# Altium footprint library 4.36-VH-3.96mm连接器.PcbLib: 30 footprints (part 2 of 2)
Each footprint in its own frame and in the unit in brackets; x right, y up, seen from the top. Pads: shape width x height; smd on the part's side, far side on the other; paste and mask are expansions set on the pad; w line width, h text height; cw(c..) or ccw(c..) is an arc to the next point about the centre after c.
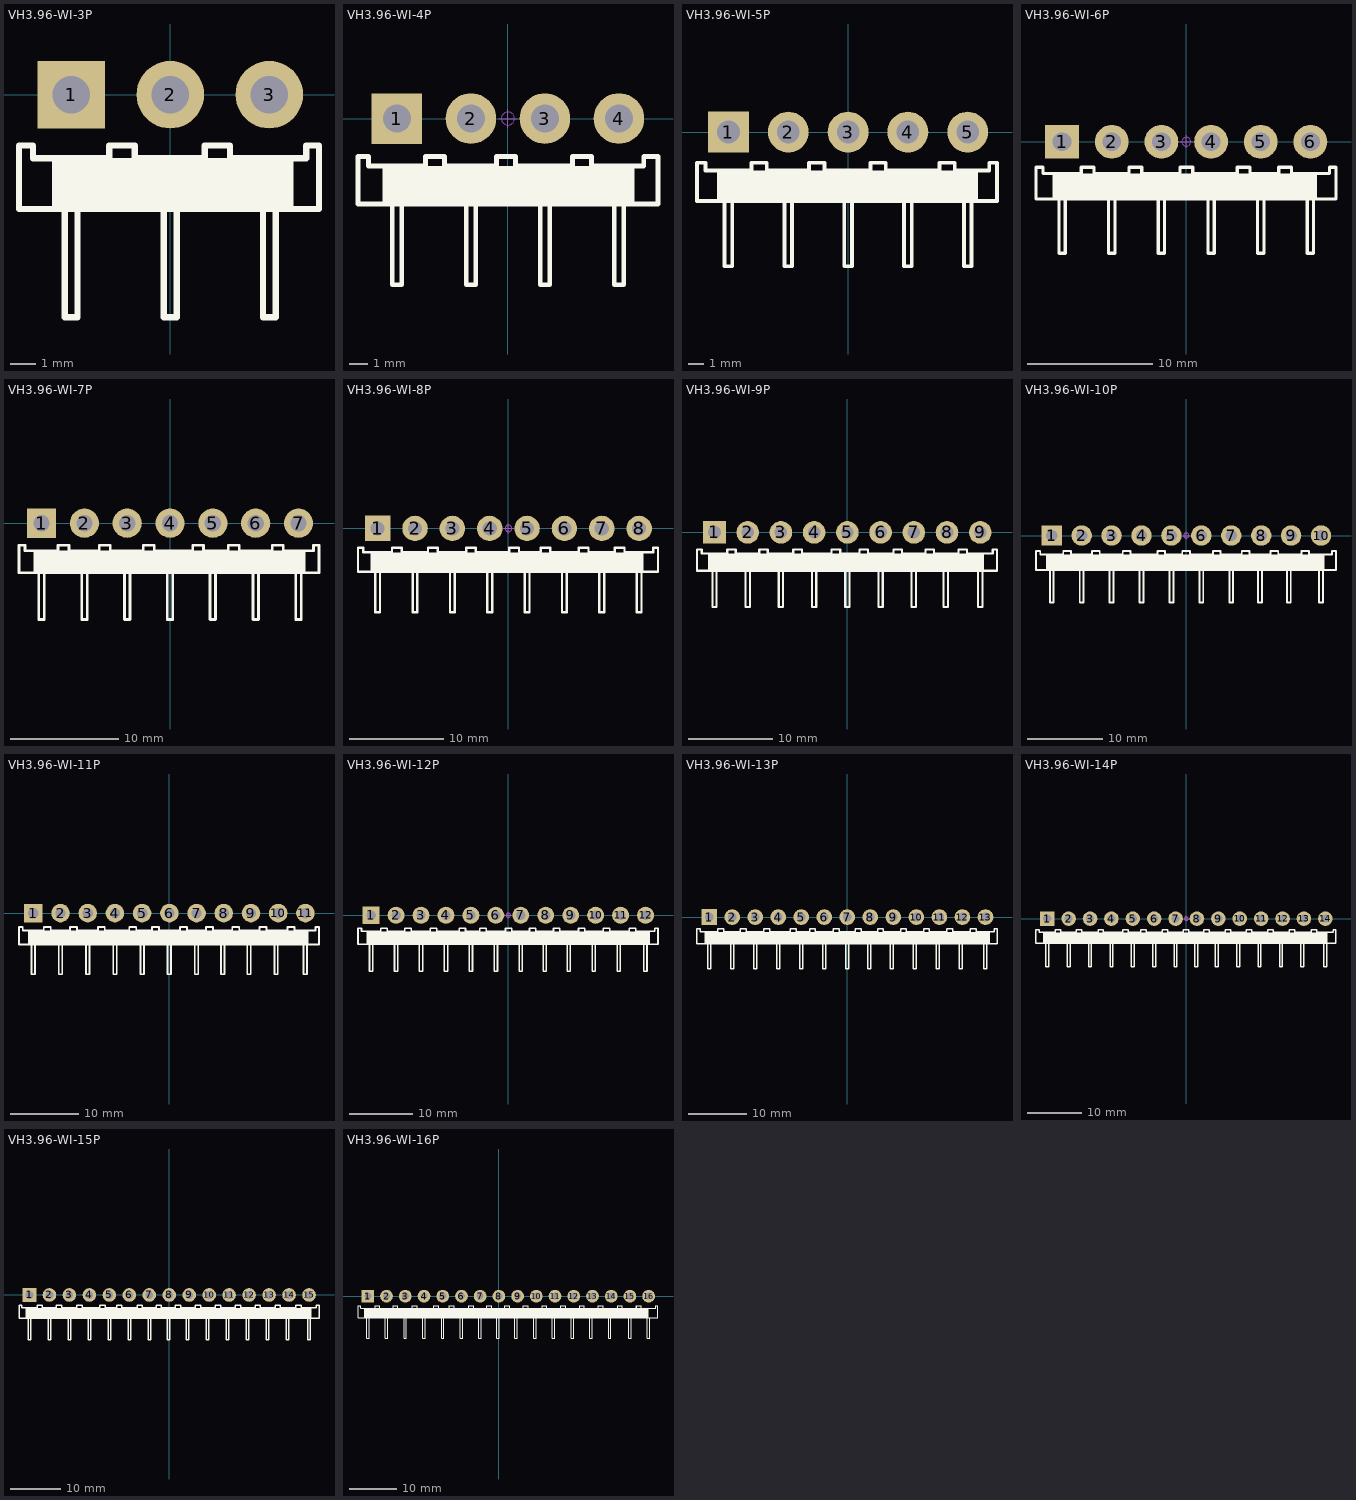
[diagram p1: the footprints below, top view; thin cyan lines are the x and y axes]

## VH3.96-WI-3P [mm] "接插件，25V/5A 淘宝ID:黄晶宝石   店铺网址:https://shop463601444.taobao.com"
pads (3):
  rect 2.7x2.7 hole 1.5: 1(-3.96,0)
  round 2.7 hole 1.5: 2(0.002,0) 3(3.96,0)
Top Overlay:
  rectangle: -4.722,-4.572 4.93,-2.54
  lines w0.254: -0.353,-4.572 0.256,-4.572 0.256,-8.89 0.002,-8.89 -0.252,-8.89 -0.252,-4.572 ; 3.604,-4.572 4.214,-4.572 4.214,-8.89 3.96,-8.89 3.706,-8.89 3.706,-4.572 ; -6.043,-4.572 -4.316,-4.572 -3.706,-4.572 -3.706,-8.89 -3.96,-8.89 -4.214,-8.89 -4.214,-4.572 5.946,-4.572 5.946,-2.032 5.438,-2.032 5.438,-2.54 2.39,-2.54 2.39,-2.032 2.085,-2.032 1.374,-2.032 1.374,-2.54 -1.42,-2.54 -1.42,-2.032 -2.436,-2.032 -2.436,-2.54 -5.484,-2.54 -5.484,-2.032 -6.043,-2.032 -6.043,-4.572
Mechanical 15:
  circle w0.05: c0,0 r0.35
  lines w0.05: -0.5,0 0.5,0 ; 0,-0.5 0,0.5
3D body "VH3.96-中H.STEP": height 8.76, standoff -3.55, extent -2.025,-12 2.025,0.6
3D body "VH3.96-左H.STEP": height 8.76, standoff -3.55, extent 1.935,-12 5.985,0.6
3D body "VH3.96_右H.STEP": height 3.13, standoff -9.18, extent -5.985,-12 -1.935,0.6

## VH3.96-WI-4P [mm] "接插件，25V/5A 淘宝ID:黄晶宝石   店铺网址:https://shop463601444.taobao.com"
pads (4):
  rect 2.7x2.7 hole 1.5: 1(-5.94,0)
  round 2.7 hole 1.5: 2(-1.978,0) 3(1.98,0) 4(5.94,0)
Top Overlay:
  rectangle: -6.702,-4.572 6.76,-2.54
  lines w0.254: -2.333,-4.572 -1.724,-4.572 -1.724,-8.89 -1.978,-8.89 -2.232,-8.89 -2.232,-4.572 ; 1.624,-4.572 2.234,-4.572 2.234,-8.89 1.98,-8.89 1.726,-8.89 1.726,-4.572 ; 5.584,-4.572 6.194,-4.572 6.194,-8.89 5.94,-8.89 5.686,-8.89 5.686,-4.572 ; -8.023,-4.572 -6.296,-4.572 -5.686,-4.572 -5.686,-8.89 -5.94,-8.89 -6.194,-8.89 -6.194,-4.572 8.03,-4.572 8.03,-2.54 8.03,-2.032 7.268,-2.032 7.268,-2.54 4.474,-2.54 4.474,-2.032 3.966,-2.032 3.458,-2.032 3.458,-2.54 0.41,-2.54 0.41,-2.032 0.105,-2.032 -0.606,-2.032 -0.606,-2.54 -3.4,-2.54 -3.4,-2.032 -4.416,-2.032 -4.416,-2.54 -7.464,-2.54 -7.464,-2.032 -8.023,-2.032 -8.023,-4.572
Mechanical 15:
  circle w0.05: c0,0 r0.35
  lines w0.05: -0.5,0 0.5,0 ; 0,-0.5 0,0.5
3D body "VH3.96-中H.STEP": height 8.76, standoff -3.55, extent -4.005,-12 0.045,0.6
3D body "VH3.96-左H.STEP": height 8.76, standoff -3.55, extent 3.915,-12 7.965,0.6
3D body "VH3.96-中H.STEP": height 8.76, standoff -3.55, extent -0.045,-12 4.005,0.6
3D body "VH3.96_右H.STEP": height 3.13, standoff -9.18, extent -7.965,-12 -3.915,0.6

## VH3.96-WI-5P [mm] "接插件，25V/5A 淘宝ID:黄晶宝石   店铺网址:https://shop463601444.taobao.com"
pads (5):
  rect 2.7x2.7 hole 1.5: 1(-7.92,0)
  round 2.7 hole 1.5: 2(-3.958,0) 3(0,0) 4(3.96,0) 5(7.92,0)
Top Overlay:
  rectangle: -8.682,-4.572 8.59,-2.54
  lines w0.254: -4.313,-4.572 -3.704,-4.572 -3.704,-8.89 -3.958,-8.89 -4.212,-8.89 -4.212,-4.572 ; -0.356,-4.572 0.254,-4.572 0.254,-8.89 0,-8.89 -0.254,-8.89 -0.254,-4.572 ; 3.604,-4.572 4.214,-4.572 4.214,-8.89 3.96,-8.89 3.706,-8.89 3.706,-4.572 ; 7.564,-4.572 8.174,-4.572 8.174,-8.89 7.92,-8.89 7.666,-8.89 7.666,-4.572 ; -10.003,-4.572 -10.003,-2.032 -9.444,-2.032 -9.444,-2.54 -6.396,-2.54 -6.396,-2.032 -5.38,-2.032 -5.38,-2.54 -2.586,-2.54 -2.586,-2.032 -1.875,-2.032 -1.57,-2.032 -1.57,-2.54 1.478,-2.54 1.478,-2.032 1.986,-2.032 2.494,-2.032 2.494,-2.54 6.05,-2.54 6.05,-2.032 7.066,-2.032 7.066,-2.54 9.352,-2.54 9.352,-2.032 9.86,-2.032 9.86,-4.572 6.05,-4.572 -8.174,-4.572 -8.174,-8.89 -7.92,-8.89 -7.666,-8.89 -7.666,-4.572 -8.276,-4.572 -10.003,-4.572
Mechanical 15:
  circle w0.05: c0,0 r0.35
  lines w0.05: -0.5,0 0.5,0 ; 0,-0.5 0,0.5
3D body "VH3.96_右H.STEP": height 3.13, standoff -9.18, extent -9.945,-12 -5.895,0.6
3D body "VH3.96-中H.STEP": height 8.76, standoff -3.55, extent -2.025,-12 2.025,0.6
3D body "VH3.96-左H.STEP": height 8.76, standoff -3.55, extent 5.895,-12 9.945,0.6
3D body "VH3.96-中H.STEP": height 8.76, standoff -3.55, extent -5.985,-12 -1.935,0.6
3D body "VH3.96-中H.STEP": height 8.76, standoff -3.55, extent 1.935,-12 5.985,0.6

## VH3.96-WI-6P [mm] "接插件，25V/5A"
pads (6):
  rect 2.7x2.7 hole 1.5: 1(-9.9,0)
  round 2.7 hole 1.5: 2(-5.938,0) 3(-1.98,0) 4(1.98,0) 5(5.94,0) 6(9.9,0)
Top Overlay:
  rectangle: -10.662,-4.572 10.42,-2.54
  lines w0.254: -6.293,-4.572 -5.684,-4.572 -5.684,-8.89 -5.938,-8.89 -6.192,-8.89 -6.192,-4.572 ; -2.336,-4.572 -1.726,-4.572 -1.726,-8.89 -1.98,-8.89 -2.234,-8.89 -2.234,-4.572 ; 1.624,-4.572 2.234,-4.572 2.234,-8.89 1.98,-8.89 1.726,-8.89 1.726,-4.572 ; 5.584,-4.572 6.194,-4.572 6.194,-8.89 5.94,-8.89 5.686,-8.89 5.686,-4.572 ; 9.544,-4.572 10.154,-4.572 10.154,-8.89 9.9,-8.89 9.646,-8.89 9.646,-4.572 ; -11.983,-4.572 -10.256,-4.572 -9.646,-4.572 -9.646,-8.89 -9.9,-8.89 -10.154,-8.89 -10.154,-4.572 4.07,-4.572 7.88,-4.572 11.944,-4.572 11.944,-2.032 11.436,-2.032 11.436,-2.54 8.388,-2.54 8.388,-2.032 7.88,-2.032 7.372,-2.032 7.372,-2.54 5.086,-2.54 5.086,-2.032 4.07,-2.032 4.07,-2.54 0.514,-2.54 0.514,-2.032 0.006,-2.032 -0.502,-2.032 -0.502,-2.54 -3.55,-2.54 -3.55,-2.032 -3.855,-2.032 -4.566,-2.032 -4.566,-2.54 -7.36,-2.54 -7.36,-2.032 -8.376,-2.032 -8.376,-2.54 -11.424,-2.54 -11.424,-2.032 -11.983,-2.032 -11.983,-4.572
Mechanical 15:
  circle w0.05: c0,0 r0.35
  lines w0.05: -0.5,0 0.5,0 ; 0,-0.5 0,0.5
3D body "VH3.96-中H.STEP": height 8.76, standoff -3.55, extent -0.045,-12 4.005,0.6
3D body "VH3.96-中H.STEP": height 8.76, standoff -3.55, extent -7.965,-12 -3.915,0.6
3D body "VH3.96-左H.STEP": height 8.76, standoff -3.55, extent 7.875,-12 11.925,0.6
3D body "VH3.96-中H.STEP": height 8.76, standoff -3.55, extent -4.005,-12 0.045,0.6
3D body "VH3.96-中H.STEP": height 8.76, standoff -3.55, extent 3.915,-12 7.965,0.6
3D body "VH3.96_右H.STEP": height 3.13, standoff -9.18, extent -11.925,-12 -7.875,0.6

## VH3.96-WI-7P [mm] "接插件，25V/5A"
pads (7):
  rect 2.7x2.7 hole 1.5: 1(-11.88,0)
  round 2.7 hole 1.5: 2(-7.918,0) 3(-3.96,0) 4(0,0) 5(3.96,0) 6(7.92,0) 7(11.88,0)
Top Overlay:
  rectangle: -12.642,-4.572 12.504,-2.54
  lines w0.254: -8.273,-4.572 -7.664,-4.572 -7.664,-8.89 -7.918,-8.89 -8.172,-8.89 -8.172,-4.572 ; -4.316,-4.572 -3.706,-4.572 -3.706,-8.89 -3.96,-8.89 -4.214,-8.89 -4.214,-4.572 ; -0.356,-4.572 0.254,-4.572 0.254,-8.89 0,-8.89 -0.254,-8.89 -0.254,-4.572 ; 3.604,-4.572 4.214,-4.572 4.214,-8.89 3.96,-8.89 3.706,-8.89 3.706,-4.572 ; 7.564,-4.572 8.174,-4.572 8.174,-8.89 7.92,-8.89 7.666,-8.89 7.666,-4.572 ; 11.524,-4.572 12.134,-4.572 12.134,-8.89 11.88,-8.89 11.626,-8.89 11.626,-4.572 ; -13.963,-4.572 -12.236,-4.572 -11.626,-4.572 -11.626,-8.89 -11.88,-8.89 -12.134,-8.89 -12.134,-4.572 2.09,-4.572 5.9,-4.572 9.964,-4.572 13.774,-4.572 13.774,-2.032 13.266,-2.032 13.266,-2.54 10.472,-2.54 10.472,-2.032 9.964,-2.032 9.456,-2.032 9.456,-2.54 6.408,-2.54 6.408,-2.032 5.9,-2.032 5.392,-2.032 5.392,-2.54 3.106,-2.54 3.106,-2.032 2.09,-2.032 2.09,-2.54 -1.466,-2.54 -1.466,-2.032 -1.974,-2.032 -2.482,-2.032 -2.482,-2.54 -5.53,-2.54 -5.53,-2.032 -5.835,-2.032 -6.546,-2.032 -6.546,-2.54 -9.34,-2.54 -9.34,-2.032 -10.356,-2.032 -10.356,-2.54 -13.404,-2.54 -13.404,-2.032 -13.963,-2.032 -13.963,-4.572
Mechanical 15:
  circle w0.05: c0,0 r0.35
  lines w0.05: -0.5,0 0.5,0 ; 0,-0.5 0,0.5
3D body "VH3.96-中H.STEP": height 8.76, standoff -3.55, extent 5.895,-12 9.945,0.6
3D body "VH3.96-中H.STEP": height 8.76, standoff -3.55, extent -2.025,-12 2.025,0.6
3D body "VH3.96-中H.STEP": height 8.76, standoff -3.55, extent -9.945,-12 -5.895,0.6
3D body "VH3.96-左H.STEP": height 8.76, standoff -3.55, extent 9.855,-12 13.905,0.6
3D body "VH3.96-中H.STEP": height 8.76, standoff -3.55, extent -5.985,-12 -1.935,0.6
3D body "VH3.96-中H.STEP": height 8.76, standoff -3.55, extent 1.935,-12 5.985,0.6
3D body "VH3.96_右H.STEP": height 3.13, standoff -9.18, extent -13.905,-12 -9.855,0.6

## VH3.96-WI-8P [mm] "接插件，25V/5A"
pads (8):
  rect 2.7x2.7 hole 1.5: 1(-13.86,0)
  round 2.7 hole 1.5: 2(-9.898,0) 3(-5.94,0) 4(-1.98,0) 5(1.98,0) 6(5.94,0) 7(9.9,0) 8(13.86,0)
Top Overlay:
  rectangle: -14.622,-4.572 14.334,-2.54
  lines w0.254: -10.253,-4.572 -9.644,-4.572 -9.644,-8.89 -9.898,-8.89 -10.152,-8.89 -10.152,-4.572 ; -6.296,-4.572 -5.686,-4.572 -5.686,-8.89 -5.94,-8.89 -6.194,-8.89 -6.194,-4.572 ; -2.336,-4.572 -1.726,-4.572 -1.726,-8.89 -1.98,-8.89 -2.234,-8.89 -2.234,-4.572 ; 1.624,-4.572 2.234,-4.572 2.234,-8.89 1.98,-8.89 1.726,-8.89 1.726,-4.572 ; 5.584,-4.572 6.194,-4.572 6.194,-8.89 5.94,-8.89 5.686,-8.89 5.686,-4.572 ; 9.544,-4.572 10.154,-4.572 10.154,-8.89 9.9,-8.89 9.646,-8.89 9.646,-4.572 ; 13.504,-4.572 14.114,-4.572 14.114,-8.89 13.86,-8.89 13.606,-8.89 13.606,-4.572 ; -15.943,-4.572 -15.943,-2.032 -15.384,-2.032 -15.384,-2.54 -12.336,-2.54 -12.336,-2.032 -11.32,-2.032 -11.32,-2.54 -8.526,-2.54 -8.526,-2.032 -7.815,-2.032 -7.51,-2.032 -7.51,-2.54 -4.462,-2.54 -4.462,-2.032 -3.954,-2.032 -3.446,-2.032 -3.446,-2.54 0.11,-2.54 0.11,-2.032 1.126,-2.032 1.126,-2.54 3.412,-2.54 3.412,-2.032 3.92,-2.032 4.428,-2.032 4.428,-2.54 7.476,-2.54 7.476,-2.032 7.984,-2.032 8.492,-2.032 8.492,-2.54 11.286,-2.54 11.286,-2.032 11.794,-2.032 12.302,-2.032 12.302,-2.54 15.35,-2.54 15.35,-2.032 15.858,-2.032 15.858,-4.572 11.794,-4.572 7.984,-4.572 3.92,-4.572 0.11,-4.572 -14.114,-4.572 -14.114,-8.89 -13.86,-8.89 -13.606,-8.89 -13.606,-4.572 -14.216,-4.572 -15.943,-4.572
Mechanical 15:
  circle w0.05: c0,0 r0.35
  lines w0.05: -0.5,0 0.5,0 ; 0,-0.5 0,0.5
3D body "VH3.96_右H.STEP": height 3.13, standoff -9.18, extent -15.885,-12 -11.835,0.6
3D body "VH3.96-中H.STEP": height 8.76, standoff -3.55, extent -0.045,-12 4.005,0.6
3D body "VH3.96-中H.STEP": height 8.76, standoff -3.55, extent -7.965,-12 -3.915,0.6
3D body "VH3.96-左H.STEP": height 8.76, standoff -3.55, extent 11.835,-12 15.885,0.6
3D body "VH3.96-中H.STEP": height 8.76, standoff -3.55, extent -11.925,-12 -7.875,0.6
3D body "VH3.96-中H.STEP": height 8.76, standoff -3.55, extent -4.005,-12 0.045,0.6
3D body "VH3.96-中H.STEP": height 8.76, standoff -3.55, extent 3.915,-12 7.965,0.6
3D body "VH3.96-中H.STEP": height 8.76, standoff -3.55, extent 7.875,-12 11.925,0.6

## VH3.96-WI-9P [mm] "接插件，25V/5A"
pads (9):
  rect 2.7x2.7 hole 1.5: 1(-15.84,0)
  round 2.7 hole 1.5: 2(-11.878,0) 3(-7.92,0) 4(-3.96,0) 5(0,0) 6(3.96,0) 7(7.92,0) 8(11.88,0) 9(15.84,0)
Top Overlay:
  rectangle: -16.602,-4.572 16.314,-2.54
  lines w0.254: -12.233,-4.572 -11.624,-4.572 -11.624,-8.89 -11.878,-8.89 -12.132,-8.89 -12.132,-4.572 ; -8.276,-4.572 -7.666,-4.572 -7.666,-8.89 -7.92,-8.89 -8.174,-8.89 -8.174,-4.572 ; -4.316,-4.572 -3.706,-4.572 -3.706,-8.89 -3.96,-8.89 -4.214,-8.89 -4.214,-4.572 ; -0.356,-4.572 0.254,-4.572 0.254,-8.89 0,-8.89 -0.254,-8.89 -0.254,-4.572 ; 3.604,-4.572 4.214,-4.572 4.214,-8.89 3.96,-8.89 3.706,-8.89 3.706,-4.572 ; 7.564,-4.572 8.174,-4.572 8.174,-8.89 7.92,-8.89 7.666,-8.89 7.666,-4.572 ; 11.374,-4.572 11.984,-4.572 11.984,-8.89 11.73,-8.89 11.476,-8.89 11.476,-4.572 ; 13.116,-2.54 10.322,-2.54 10.322,-2.032 9.814,-2.032 9.306,-2.032 9.306,-2.54 6.512,-2.54 6.512,-2.032 6.004,-2.032 5.496,-2.032 5.496,-2.54 2.448,-2.54 2.448,-2.032 1.94,-2.032 1.432,-2.032 1.432,-2.54 -0.854,-2.54 -0.854,-2.032 -1.87,-2.032 -1.87,-2.54 -5.426,-2.54 -5.426,-2.032 -5.934,-2.032 -6.442,-2.032 -6.442,-2.54 -9.49,-2.54 -9.49,-2.032 -9.795,-2.032 -10.506,-2.032 -10.506,-2.54 -13.3,-2.54 -13.3,-2.032 -14.316,-2.032 -14.316,-2.54 -17.364,-2.54 -17.364,-2.032 -17.923,-2.032 -17.923,-4.572 -16.196,-4.572 -15.586,-4.572 -15.586,-8.89 -15.84,-8.89 -16.094,-8.89 -16.094,-4.572 -1.87,-4.572 1.94,-4.572 6.004,-4.572 9.814,-4.572 13.624,-4.572 17.838,-4.572 17.838,-2.032 17.33,-2.032 17.33,-2.54 14.282,-2.54 14.282,-2.032 13.774,-2.032 13.266,-2.032 13.266,-2.54 ; 15.484,-4.572 16.094,-4.572 16.094,-8.89 15.84,-8.89 15.586,-8.89 15.586,-4.572
Mechanical 15:
  circle w0.05: c0,0 r0.35
  lines w0.05: -0.5,0 0.5,0 ; 0,-0.5 0,0.5
3D body "VH3.96-中H.STEP": height 8.76, standoff -3.55, extent 5.895,-12 9.945,0.6
3D body "VH3.96-中H.STEP": height 8.76, standoff -3.55, extent 1.935,-12 5.985,0.6
3D body "VH3.96-中H.STEP": height 8.76, standoff -3.55, extent -5.985,-12 -1.935,0.6
3D body "VH3.96-中H.STEP": height 8.76, standoff -3.55, extent -13.905,-12 -9.855,0.6
3D body "VH3.96-左H.STEP": height 8.76, standoff -3.55, extent 13.815,-12 17.865,0.6
3D body "VH3.96-中H.STEP": height 8.76, standoff -3.55, extent -9.945,-12 -5.895,0.6
3D body "VH3.96-中H.STEP": height 8.76, standoff -3.55, extent -2.025,-12 2.025,0.6
3D body "VH3.96-中H.STEP": height 8.76, standoff -3.55, extent 9.855,-12 13.905,0.6
3D body "VH3.96_右H.STEP": height 3.13, standoff -9.18, extent -17.865,-12 -13.815,0.6

## VH3.96-WI-10P [mm] "接插件，25V/5A  淘宝ID:黄晶宝石   店铺网址:https://shop463601444.taobao.com"
pads (10):
  rect 2.7x2.7 hole 1.5: 1(-17.82,0)
  round 2.7 hole 1.5: 2(-13.858,0) 3(-9.9,0) 4(-5.94,0) 5(-1.98,0) 6(1.98,0) 7(5.94,0) 8(9.9,0) 9(13.86,0) 10(17.82,0)
Top Overlay:
  rectangle: -18.582,-4.572 18.294,-2.54
  lines w0.254: -14.213,-4.572 -13.604,-4.572 -13.604,-8.89 -13.858,-8.89 -14.112,-8.89 -14.112,-4.572 ; -10.256,-4.572 -9.646,-4.572 -9.646,-8.89 -9.9,-8.89 -10.154,-8.89 -10.154,-4.572 ; -6.296,-4.572 -5.686,-4.572 -5.686,-8.89 -5.94,-8.89 -6.194,-8.89 -6.194,-4.572 ; -2.336,-4.572 -1.726,-4.572 -1.726,-8.89 -1.98,-8.89 -2.234,-8.89 -2.234,-4.572 ; 1.624,-4.572 2.234,-4.572 2.234,-8.89 1.98,-8.89 1.726,-8.89 1.726,-4.572 ; 5.584,-4.572 6.194,-4.572 6.194,-8.89 5.94,-8.89 5.686,-8.89 5.686,-4.572 ; 9.394,-4.572 10.004,-4.572 10.004,-8.89 9.75,-8.89 9.496,-8.89 9.496,-4.572 ; 13.204,-4.572 13.814,-4.572 13.814,-8.89 13.56,-8.89 13.306,-8.89 13.306,-4.572 ; 15.454,-4.572 11.644,-4.572 7.834,-4.572 4.024,-4.572 -0.04,-4.572 -3.85,-4.572 -18.074,-4.572 -18.074,-8.89 -17.82,-8.89 -17.566,-8.89 -17.566,-4.572 -18.176,-4.572 -19.903,-4.572 -19.903,-2.032 -19.344,-2.032 -19.344,-2.54 -16.296,-2.54 -16.296,-2.032 -15.28,-2.032 -15.28,-2.54 -12.486,-2.54 -12.486,-2.032 -11.775,-2.032 -11.47,-2.032 -11.47,-2.54 -8.422,-2.54 -8.422,-2.032 -7.914,-2.032 -7.406,-2.032 -7.406,-2.54 -3.85,-2.54 -3.85,-2.032 -2.834,-2.032 -2.834,-2.54 -0.548,-2.54 -0.548,-2.032 -0.04,-2.032 0.468,-2.032 0.468,-2.54 3.516,-2.54 3.516,-2.032 4.024,-2.032 4.532,-2.032 4.532,-2.54 7.326,-2.54 7.326,-2.032 7.834,-2.032 8.342,-2.032 8.342,-2.54 11.136,-2.54 11.136,-2.032 11.644,-2.032 12.152,-2.032 12.152,-2.54 15.228,-2.54 15.228,-2.032 15.736,-2.032 16.244,-2.032 16.244,-2.54 19.292,-2.54 19.292,-2.032 19.8,-2.032 19.8,-4.572 15.586,-4.572 ; 17.446,-4.572 18.056,-4.572 18.056,-8.89 17.802,-8.89 17.548,-8.89 17.548,-4.572
Mechanical 15:
  circle w0.05: c0,0 r0.35
  lines w0.05: -0.5,0 0.5,0 ; 0,-0.5 0,0.5
3D body "VH3.96-中H.STEP": height 8.76, standoff -3.55, extent 11.835,-12 15.885,0.6
3D body "VH3.96-中H.STEP": height 8.76, standoff -3.55, extent 3.915,-12 7.965,0.6
3D body "VH3.96-中H.STEP": height 8.76, standoff -3.55, extent -0.045,-12 4.005,0.6
3D body "VH3.96-中H.STEP": height 8.76, standoff -3.55, extent -7.965,-12 -3.915,0.6
3D body "VH3.96-中H.STEP": height 8.76, standoff -3.55, extent -15.885,-12 -11.835,0.6
3D body "VH3.96-左H.STEP": height 8.76, standoff -3.55, extent 15.795,-12 19.845,0.6
3D body "VH3.96-中H.STEP": height 8.76, standoff -3.55, extent -11.925,-12 -7.875,0.6
3D body "VH3.96-中H.STEP": height 8.76, standoff -3.55, extent -4.005,-12 0.045,0.6
3D body "VH3.96-中H.STEP": height 8.76, standoff -3.55, extent 7.875,-12 11.925,0.6
3D body "VH3.96_右H.STEP": height 3.13, standoff -9.18, extent -19.845,-12 -15.795,0.6

## VH3.96-WI-11P [mm] "接插件，25V/5A"
pads (11):
  rect 2.7x2.7 hole 1.5: 1(-19.8,0)
  round 2.7 hole 1.5: 2(-15.838,0) 3(-11.88,0) 4(-7.92,0) 5(-3.96,0) 6(0,0) 7(3.96,0) 8(7.92,0) 9(11.88,0) 10(15.84,0) 11(19.8,0)
Top Overlay:
  rectangle: -20.562,-4.572 20.245,-2.54
  lines w0.254: -16.193,-4.572 -15.584,-4.572 -15.584,-8.89 -15.838,-8.89 -16.092,-8.89 -16.092,-4.572 ; -12.236,-4.572 -11.626,-4.572 -11.626,-8.89 -11.88,-8.89 -12.134,-8.89 -12.134,-4.572 ; -8.276,-4.572 -7.666,-4.572 -7.666,-8.89 -7.92,-8.89 -8.174,-8.89 -8.174,-4.572 ; -4.316,-4.572 -3.706,-4.572 -3.706,-8.89 -3.96,-8.89 -4.214,-8.89 -4.214,-4.572 ; -0.356,-4.572 0.254,-4.572 0.254,-8.89 0,-8.89 -0.254,-8.89 -0.254,-4.572 ; 3.604,-4.572 4.214,-4.572 4.214,-8.89 3.96,-8.89 3.706,-8.89 3.706,-4.572 ; 7.414,-4.572 8.024,-4.572 8.024,-8.89 7.77,-8.89 7.516,-8.89 7.516,-4.572 ; 11.224,-4.572 11.834,-4.572 11.834,-8.89 11.58,-8.89 11.326,-8.89 11.326,-4.572 ; 13.26,-4.572 18.34,-4.572 ; 13.474,-4.572 9.664,-4.572 5.854,-4.572 2.044,-4.572 -2.02,-4.572 -5.83,-4.572 -20.054,-4.572 -20.054,-8.89 -19.8,-8.89 -19.546,-8.89 -19.546,-4.572 -20.156,-4.572 -21.883,-4.572 -21.883,-2.032 -21.324,-2.032 -21.324,-2.54 -18.276,-2.54 -18.276,-2.032 -17.26,-2.032 -17.26,-2.54 -14.466,-2.54 -14.466,-2.032 -13.755,-2.032 -13.45,-2.032 -13.45,-2.54 -10.402,-2.54 -10.402,-2.032 -9.894,-2.032 -9.386,-2.032 -9.386,-2.54 -5.83,-2.54 -5.83,-2.032 -4.814,-2.032 -4.814,-2.54 -2.528,-2.54 -2.528,-2.032 -2.02,-2.032 -1.512,-2.032 -1.512,-2.54 1.536,-2.54 1.536,-2.032 2.044,-2.032 2.552,-2.032 2.552,-2.54 5.346,-2.54 5.346,-2.032 5.854,-2.032 6.362,-2.032 6.362,-2.54 9.156,-2.54 9.156,-2.032 9.664,-2.032 10.172,-2.032 10.172,-2.54 13.116,-2.54 13.116,-2.032 13.624,-2.032 14.132,-2.032 14.132,-2.54 17.208,-2.54 17.208,-2.032 17.716,-2.032 18.224,-2.032 18.224,-2.54 21.272,-2.54 21.272,-2.032 21.78,-2.032 21.78,-4.572 17.566,-4.572 ; 15.184,-4.572 15.794,-4.572 15.794,-8.89 15.54,-8.89 15.286,-8.89 15.286,-4.572 ; 19.426,-4.572 20.036,-4.572 20.036,-8.89 19.782,-8.89 19.528,-8.89 19.528,-4.572
Mechanical 15:
  circle w0.05: c0,0 r0.35
  lines w0.05: -0.5,0 0.5,0 ; 0,-0.5 0,0.5
3D body "VH3.96-中H.STEP": height 8.76, standoff -3.55, extent 13.815,-12 17.865,0.6
3D body "VH3.96-中H.STEP": height 8.76, standoff -3.55, extent 9.855,-12 13.905,0.6
3D body "VH3.96-中H.STEP": height 8.76, standoff -3.55, extent 1.935,-12 5.985,0.6
3D body "VH3.96-中H.STEP": height 8.76, standoff -3.55, extent -2.025,-12 2.025,0.6
3D body "VH3.96-中H.STEP": height 8.76, standoff -3.55, extent -9.945,-12 -5.895,0.6
3D body "VH3.96-中H.STEP": height 8.76, standoff -3.55, extent -17.865,-12 -13.815,0.6
3D body "VH3.96-左H.STEP": height 8.76, standoff -3.55, extent 17.775,-12 21.825,0.6
3D body "VH3.96-中H.STEP": height 8.76, standoff -3.55, extent -13.905,-12 -9.855,0.6
3D body "VH3.96-中H.STEP": height 8.76, standoff -3.55, extent -5.985,-12 -1.935,0.6
3D body "VH3.96-中H.STEP": height 8.76, standoff -3.55, extent 5.895,-12 9.945,0.6
3D body "VH3.96_右H.STEP": height 3.13, standoff -9.18, extent -21.825,-12 -17.775,0.6

## VH3.96-WI-12P [mm] "接插件，25V/5A"
pads (12):
  rect 2.7x2.7 hole 1.5: 1(-21.78,0)
  round 2.7 hole 1.5: 2(-17.818,0) 3(-13.86,0) 4(-9.9,0) 5(-5.94,0) 6(-1.98,0) 7(1.98,0) 8(5.94,0) 9(9.9,0) 10(13.86,0) 11(17.82,0) 12(21.78,0)
Top Overlay:
  rectangle: -22.542,-4.572 22.456,-2.54
  lines w0.254: -18.173,-4.572 -17.564,-4.572 -17.564,-8.89 -17.818,-8.89 -18.072,-8.89 -18.072,-4.572 ; -14.216,-4.572 -13.606,-4.572 -13.606,-8.89 -13.86,-8.89 -14.114,-8.89 -14.114,-4.572 ; -10.256,-4.572 -9.646,-4.572 -9.646,-8.89 -9.9,-8.89 -10.154,-8.89 -10.154,-4.572 ; -6.296,-4.572 -5.686,-4.572 -5.686,-8.89 -5.94,-8.89 -6.194,-8.89 -6.194,-4.572 ; -2.336,-4.572 -1.726,-4.572 -1.726,-8.89 -1.98,-8.89 -2.234,-8.89 -2.234,-4.572 ; 1.624,-4.572 2.234,-4.572 2.234,-8.89 1.98,-8.89 1.726,-8.89 1.726,-4.572 ; 5.434,-4.572 6.044,-4.572 6.044,-8.89 5.79,-8.89 5.536,-8.89 5.536,-4.572 ; 9.244,-4.572 9.854,-4.572 9.854,-8.89 9.6,-8.89 9.346,-8.89 9.346,-4.572 ; 11.28,-4.572 16.36,-4.572 ; 11.494,-4.572 7.684,-4.572 3.874,-4.572 0.064,-4.572 -4,-4.572 -7.81,-4.572 -22.034,-4.572 -22.034,-8.89 -21.78,-8.89 -21.526,-8.89 -21.526,-4.572 -22.136,-4.572 -23.863,-4.572 -23.863,-2.032 -23.304,-2.032 -23.304,-2.54 -20.256,-2.54 -20.256,-2.032 -19.24,-2.032 -19.24,-2.54 -16.446,-2.54 -16.446,-2.032 -15.735,-2.032 -15.43,-2.032 -15.43,-2.54 -12.382,-2.54 -12.382,-2.032 -11.874,-2.032 -11.366,-2.032 -11.366,-2.54 -7.81,-2.54 -7.81,-2.032 -6.794,-2.032 -6.794,-2.54 -4.508,-2.54 -4.508,-2.032 -4,-2.032 -3.492,-2.032 -3.492,-2.54 -0.444,-2.54 -0.444,-2.032 0.064,-2.032 0.572,-2.032 0.572,-2.54 3.366,-2.54 3.366,-2.032 3.874,-2.032 4.382,-2.032 4.382,-2.54 7.176,-2.54 7.176,-2.032 7.684,-2.032 8.192,-2.032 8.192,-2.54 11.136,-2.54 11.136,-2.032 11.644,-2.032 12.152,-2.032 12.152,-2.54 15.096,-2.54 15.096,-2.032 15.604,-2.032 16.112,-2.032 16.112,-2.54 19.188,-2.54 19.188,-2.032 19.696,-2.032 20.204,-2.032 20.204,-2.54 23.252,-2.54 23.252,-2.032 23.76,-2.032 23.76,-4.572 19.546,-4.572 ; 13.204,-4.572 13.814,-4.572 13.814,-8.89 13.56,-8.89 13.306,-8.89 13.306,-4.572 ; 15.24,-4.572 20.32,-4.572 ; 17.164,-4.572 17.774,-4.572 17.774,-8.89 17.52,-8.89 17.266,-8.89 17.266,-4.572 ; 21.406,-4.572 22.016,-4.572 22.016,-8.89 21.762,-8.89 21.508,-8.89 21.508,-4.572
Mechanical 15:
  circle w0.05: c0,0 r0.35
  lines w0.05: -0.5,0 0.5,0 ; 0,-0.5 0,0.5
3D body "VH3.96_右H.STEP": height 3.13, standoff -9.18, extent -23.805,-12 -19.755,0.6
3D body "VH3.96-中H.STEP": height 8.76, standoff -3.55, extent 15.795,-12 19.845,0.6
3D body "VH3.96-中H.STEP": height 8.76, standoff -3.55, extent 3.915,-12 7.965,0.6
3D body "VH3.96-中H.STEP": height 8.76, standoff -3.55, extent -7.965,-12 -3.915,0.6
3D body "VH3.96-中H.STEP": height 8.76, standoff -3.55, extent -15.885,-12 -11.835,0.6
3D body "VH3.96-左H.STEP": height 8.76, standoff -3.55, extent 19.755,-12 23.805,0.6
3D body "VH3.96-中H.STEP": height 8.76, standoff -3.55, extent -19.845,-12 -15.795,0.6
3D body "VH3.96-中H.STEP": height 8.76, standoff -3.55, extent -11.925,-12 -7.875,0.6
3D body "VH3.96-中H.STEP": height 8.76, standoff -3.55, extent -4.005,-12 0.045,0.6
3D body "VH3.96-中H.STEP": height 8.76, standoff -3.55, extent -0.045,-12 4.005,0.6
3D body "VH3.96-中H.STEP": height 8.76, standoff -3.55, extent 7.875,-12 11.925,0.6
3D body "VH3.96-中H.STEP": height 8.76, standoff -3.55, extent 11.835,-12 15.885,0.6

## VH3.96-WI-13P [mm] "接插件，25V/5A"
pads (13):
  rect 2.7x2.7 hole 1.5: 1(-23.76,0)
  round 2.7 hole 1.5: 2(-19.798,0) 3(-15.84,0) 4(-11.88,0) 5(-7.92,0) 6(-3.96,0) 7(0,0) 8(3.96,0) 9(7.92,0) 10(11.88,0) 11(15.84,0) 12(19.8,0) 13(23.76,0)
Top Overlay:
  rectangle: -24.522,-4.572 24.54,-2.54
  lines w0.254: -20.153,-4.572 -19.544,-4.572 -19.544,-8.89 -19.798,-8.89 -20.052,-8.89 -20.052,-4.572 ; -16.196,-4.572 -15.586,-4.572 -15.586,-8.89 -15.84,-8.89 -16.094,-8.89 -16.094,-4.572 ; -12.236,-4.572 -11.626,-4.572 -11.626,-8.89 -11.88,-8.89 -12.134,-8.89 -12.134,-4.572 ; -8.276,-4.572 -7.666,-4.572 -7.666,-8.89 -7.92,-8.89 -8.174,-8.89 -8.174,-4.572 ; -4.316,-4.572 -3.706,-4.572 -3.706,-8.89 -3.96,-8.89 -4.214,-8.89 -4.214,-4.572 ; -0.356,-4.572 0.254,-4.572 0.254,-8.89 0,-8.89 -0.254,-8.89 -0.254,-4.572 ; 3.454,-4.572 4.064,-4.572 4.064,-8.89 3.81,-8.89 3.556,-8.89 3.556,-4.572 ; 7.264,-4.572 7.874,-4.572 7.874,-8.89 7.62,-8.89 7.366,-8.89 7.366,-4.572 ; 9.3,-4.572 14.38,-4.572 ; 9.514,-4.572 5.704,-4.572 1.894,-4.572 -1.916,-4.572 -5.98,-4.572 -9.79,-4.572 -24.014,-4.572 -24.014,-8.89 -23.76,-8.89 -23.506,-8.89 -23.506,-4.572 -24.116,-4.572 -25.843,-4.572 -25.843,-2.032 -25.284,-2.032 -25.284,-2.54 -22.236,-2.54 -22.236,-2.032 -21.22,-2.032 -21.22,-2.54 -18.426,-2.54 -18.426,-2.032 -17.715,-2.032 -17.41,-2.032 -17.41,-2.54 -14.362,-2.54 -14.362,-2.032 -13.854,-2.032 -13.346,-2.032 -13.346,-2.54 -9.79,-2.54 -9.79,-2.032 -8.774,-2.032 -8.774,-2.54 -6.488,-2.54 -6.488,-2.032 -5.98,-2.032 -5.472,-2.032 -5.472,-2.54 -2.424,-2.54 -2.424,-2.032 -1.916,-2.032 -1.408,-2.032 -1.408,-2.54 1.386,-2.54 1.386,-2.032 1.894,-2.032 2.402,-2.032 2.402,-2.54 5.196,-2.54 5.196,-2.032 5.704,-2.032 6.212,-2.032 6.212,-2.54 9.156,-2.54 9.156,-2.032 9.664,-2.032 10.172,-2.032 10.172,-2.54 13.116,-2.54 13.116,-2.032 13.624,-2.032 14.132,-2.032 14.132,-2.54 17.076,-2.54 17.076,-2.032 17.584,-2.032 18.092,-2.032 18.092,-2.54 21.168,-2.54 21.168,-2.032 21.676,-2.032 22.184,-2.032 22.184,-2.54 25.232,-2.54 25.232,-2.032 25.74,-2.032 25.74,-4.572 21.526,-4.572 ; 11.224,-4.572 11.834,-4.572 11.834,-8.89 11.58,-8.89 11.326,-8.89 11.326,-4.572 ; 13.26,-4.572 18.34,-4.572 ; 15.184,-4.572 15.794,-4.572 15.794,-8.89 15.54,-8.89 15.286,-8.89 15.286,-4.572 ; 17.22,-4.572 22.3,-4.572 ; 19.144,-4.572 19.754,-4.572 19.754,-8.89 19.5,-8.89 19.246,-8.89 19.246,-4.572 ; 23.386,-4.572 23.996,-4.572 23.996,-8.89 23.742,-8.89 23.488,-8.89 23.488,-4.572
Mechanical 15:
  circle w0.05: c0,0 r0.35
  lines w0.05: -0.5,0 0.5,0 ; 0,-0.5 0,0.5
3D body "VH3.96_右H.STEP": height 3.13, standoff -9.18, extent -25.785,-12 -21.735,0.6
3D body "VH3.96-中H.STEP": height 8.76, standoff -3.55, extent 13.815,-12 17.865,0.6
3D body "VH3.96-中H.STEP": height 8.76, standoff -3.55, extent 1.935,-12 5.985,0.6
3D body "VH3.96-中H.STEP": height 8.76, standoff -3.55, extent -9.945,-12 -5.895,0.6
3D body "VH3.96-中H.STEP": height 8.76, standoff -3.55, extent -17.865,-12 -13.815,0.6
3D body "VH3.96-左H.STEP": height 8.76, standoff -3.55, extent 21.735,-12 25.785,0.6
3D body "VH3.96-中H.STEP": height 8.76, standoff -3.55, extent -21.825,-12 -17.775,0.6
3D body "VH3.96-中H.STEP": height 8.76, standoff -3.55, extent -13.905,-12 -9.855,0.6
3D body "VH3.96-中H.STEP": height 8.76, standoff -3.55, extent -5.985,-12 -1.935,0.6
3D body "VH3.96-中H.STEP": height 8.76, standoff -3.55, extent -2.025,-12 2.025,0.6
3D body "VH3.96-中H.STEP": height 8.76, standoff -3.55, extent 5.895,-12 9.945,0.6
3D body "VH3.96-中H.STEP": height 8.76, standoff -3.55, extent 9.855,-12 13.905,0.6
3D body "VH3.96-中H.STEP": height 8.76, standoff -3.55, extent 17.775,-12 21.825,0.6

## VH3.96-WI-14P [mm] "接插件，25V/5A"
pads (14):
  rect 2.7x2.7 hole 1.5: 1(-25.74,0)
  round 2.7 hole 1.5: 2(-21.778,0) 3(-17.82,0) 4(-13.86,0) 5(-9.9,0) 6(-5.94,0) 7(-1.98,0) 8(1.98,0) 9(5.94,0) 10(9.9,0) 11(13.86,0) 12(17.82,0) 13(21.78,0) 14(25.74,0)
Top Overlay:
  drawing of 153 lines, arcs and shapes, not listed
Mechanical 15:
  circle w0.05: c0,0 r0.35
  lines w0.05: -0.5,0 0.5,0 ; 0,-0.5 0,0.5
3D body "VH3.96-中H.STEP": height 8.76, standoff -3.55, extent 19.755,-12 23.805,0.6
3D body "VH3.96-中H.STEP": height 8.76, standoff -3.55, extent 11.835,-12 15.885,0.6
3D body "VH3.96-中H.STEP": height 8.76, standoff -3.55, extent -0.045,-12 4.005,0.6
3D body "VH3.96-中H.STEP": height 8.76, standoff -3.55, extent -11.925,-12 -7.875,0.6
3D body "VH3.96-中H.STEP": height 8.76, standoff -3.55, extent -19.845,-12 -15.795,0.6
3D body "VH3.96-中H.STEP": height 8.76, standoff -3.55, extent -23.805,-12 -19.755,0.6
3D body "VH3.96-中H.STEP": height 8.76, standoff -3.55, extent -15.885,-12 -11.835,0.6
3D body "VH3.96-中H.STEP": height 8.76, standoff -3.55, extent -7.965,-12 -3.915,0.6
3D body "VH3.96-中H.STEP": height 8.76, standoff -3.55, extent -4.005,-12 0.045,0.6
3D body "VH3.96-中H.STEP": height 8.76, standoff -3.55, extent 3.915,-12 7.965,0.6
3D body "VH3.96-中H.STEP": height 8.76, standoff -3.55, extent 7.875,-12 11.925,0.6
3D body "VH3.96-中H.STEP": height 8.76, standoff -3.55, extent 15.795,-12 19.845,0.6
3D body "VH3.96_右H.STEP": height 3.13, standoff -9.18, extent -27.765,-12 -23.715,0.6
3D body "VH3.96-左H.STEP": height 8.76, standoff -3.55, extent 23.715,-12 27.765,0.6

## VH3.96-WI-15P [mm] "接插件，25V/5A"
pads (15):
  rect 2.7x2.7 hole 1.5: 1(-27.72,0)
  round 2.7 hole 1.5: 2(-23.758,0) 3(-19.8,0) 4(-15.84,0) 5(-11.88,0) 6(-7.92,0) 7(-3.96,0) 8(0,0) 9(3.96,0) 10(7.92,0) 11(11.88,0) 12(15.84,0) 13(19.8,0) 14(23.76,0) 15(27.72,0)
Top Overlay:
  drawing of 164 lines, arcs and shapes, not listed
Mechanical 15:
  circle w0.05: c0,0 r0.35
  lines w0.05: -0.5,0 0.5,0 ; 0,-0.5 0,0.5
3D body "VH3.96-左H.STEP": height 8.76, standoff -3.55, extent 25.697,-12 29.747,0.6
3D body "VH3.96-中H.STEP": height 8.76, standoff -3.55, extent 13.815,-12 17.865,0.6
3D body "VH3.96-中H.STEP": height 8.76, standoff -3.55, extent 5.895,-12 9.945,0.6
3D body "VH3.96-中H.STEP": height 8.76, standoff -3.55, extent 1.935,-12 5.985,0.6
3D body "VH3.96-中H.STEP": height 8.76, standoff -3.55, extent -5.985,-12 -1.935,0.6
3D body "VH3.96-中H.STEP": height 8.76, standoff -3.55, extent -9.945,-12 -5.895,0.6
3D body "VH3.96-中H.STEP": height 8.76, standoff -3.55, extent -17.865,-12 -13.815,0.6
3D body "VH3.96-中H.STEP": height 8.76, standoff -3.55, extent -25.785,-12 -21.735,0.6
3D body "VH3.96-中H.STEP": height 8.76, standoff -3.55, extent -21.825,-12 -17.775,0.6
3D body "VH3.96-中H.STEP": height 8.76, standoff -3.55, extent -13.905,-12 -9.855,0.6
3D body "VH3.96-中H.STEP": height 8.76, standoff -3.55, extent -2.025,-12 2.025,0.6
3D body "VH3.96-中H.STEP": height 8.76, standoff -3.55, extent 9.855,-12 13.905,0.6
3D body "VH3.96-中H.STEP": height 8.76, standoff -3.55, extent 17.775,-12 21.825,0.6
3D body "VH3.96-中H.STEP": height 8.76, standoff -3.55, extent 21.735,-12 25.785,0.6
3D body "VH3.96_右H.STEP": height 3.13, standoff -9.18, extent -29.745,-12 -25.695,0.6

## VH3.96-WI-16P [mm] "接插件，25V/5A"
pads (16):
  rect 2.7x2.7 hole 1.5: 1(-27.72,0)
  round 2.7 hole 1.5: 2(-23.758,0) 3(-19.8,0) 4(-15.84,0) 5(-11.88,0) 6(-7.92,0) 7(-3.96,0) 8(0,0) 9(3.96,0) 10(7.92,0) 11(11.88,0) 12(15.84,0) 13(19.8,0) 14(23.76,0) 15(27.72,0) 16(31.68,0)
Top Overlay:
  drawing of 177 lines, arcs and shapes, not listed
Mechanical 15:
  circle w0.05: c0,0 r0.35
  lines w0.05: -0.5,0 0.5,0 ; 0,-0.5 0,0.5
3D body "VH3.96-左H.STEP": height 8.76, standoff -3.55, extent 29.657,-12 33.707,0.6
3D body "VH3.96-中H.STEP": height 8.76, standoff -3.55, extent 25.695,-12 29.745,0.6
3D body "VH3.96-中H.STEP": height 8.76, standoff -3.55, extent 21.735,-12 25.785,0.6
3D body "VH3.96-中H.STEP": height 8.76, standoff -3.55, extent 17.775,-12 21.825,0.6
3D body "VH3.96-中H.STEP": height 8.76, standoff -3.55, extent 9.855,-12 13.905,0.6
3D body "VH3.96-中H.STEP": height 8.76, standoff -3.55, extent -2.025,-12 2.025,0.6
3D body "VH3.96-中H.STEP": height 8.76, standoff -3.55, extent -13.905,-12 -9.855,0.6
3D body "VH3.96-中H.STEP": height 8.76, standoff -3.55, extent -21.825,-12 -17.775,0.6
3D body "VH3.96-中H.STEP": height 8.76, standoff -3.55, extent -25.785,-12 -21.735,0.6
3D body "VH3.96-中H.STEP": height 8.76, standoff -3.55, extent -17.865,-12 -13.815,0.6
3D body "VH3.96-中H.STEP": height 8.76, standoff -3.55, extent -9.945,-12 -5.895,0.6
3D body "VH3.96-中H.STEP": height 8.76, standoff -3.55, extent -5.985,-12 -1.935,0.6
3D body "VH3.96-中H.STEP": height 8.76, standoff -3.55, extent 1.935,-12 5.985,0.6
3D body "VH3.96-中H.STEP": height 8.76, standoff -3.55, extent 5.895,-12 9.945,0.6
3D body "VH3.96-中H.STEP": height 8.76, standoff -3.55, extent 13.815,-12 17.865,0.6
3D body "VH3.96_右H.STEP": height 3.13, standoff -9.18, extent -29.745,-12 -25.695,0.6